# Altium footprint library ITR9606Board.PcbLib: 8 footprints
Each footprint in its own frame and in the unit in brackets; x right, y up, seen from the top. Pads: shape width x height; smd on the part's side, far side on the other; paste and mask are expansions set on the pad; w line width, h text height; cw(c..) or ccw(c..) is an arc to the next point about the centre after c.
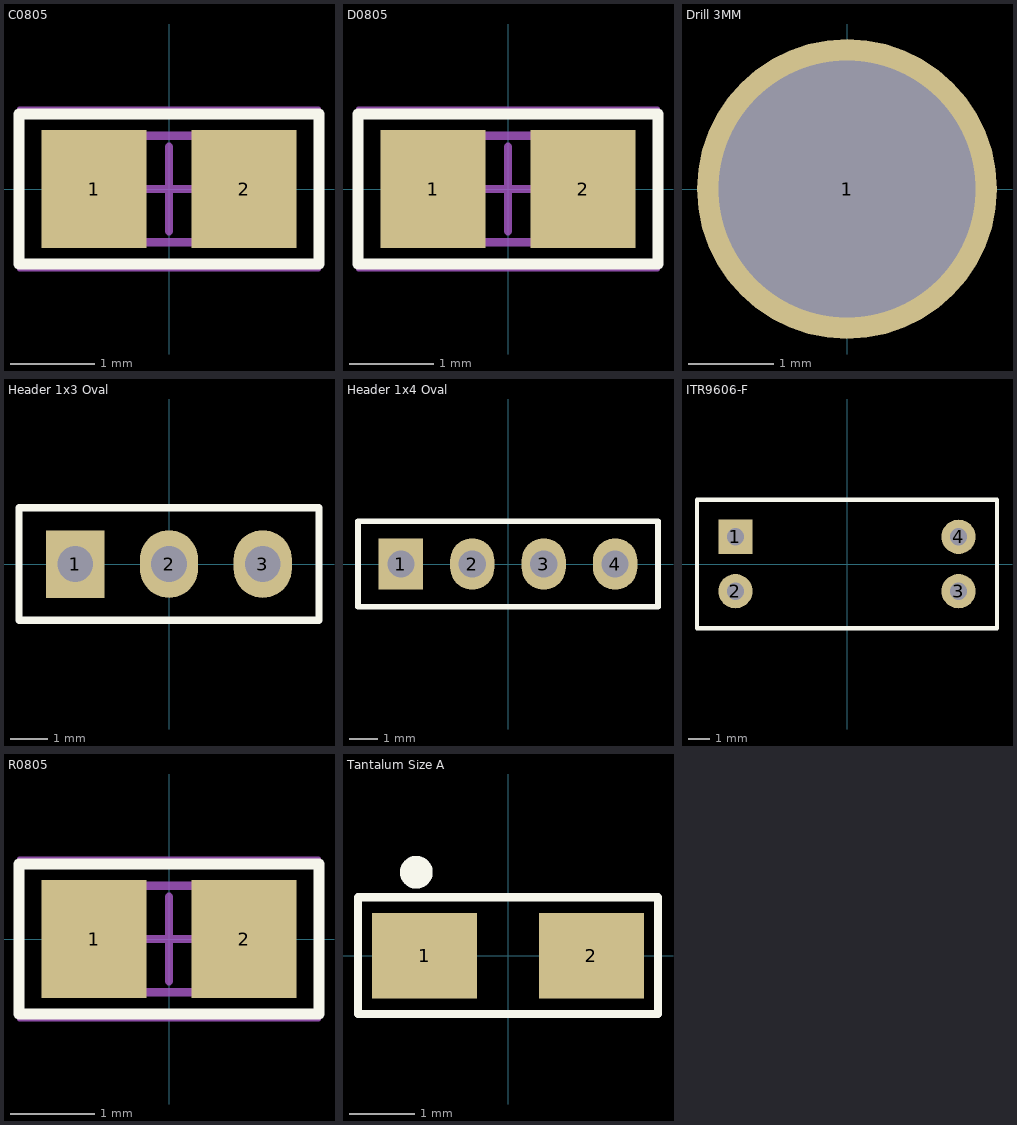
[diagram p0: the footprints below, top view; thin cyan lines are the x and y axes]

## C0805 [mm] "Chip Capacitor, 2-Leads, Body 2.00x1.25mm"
height 0.6
pads (2):
  rect 1.25x1.4 smd: 1(-0.889,0) 2(0.889,0)
Top Overlay:
  lines w0.127: -1.778,-0.889 -1.778,0.889 1.778,0.889 1.778,-0.889 -1.778,-0.889
Mechanical 13:
  lines w0.1: -1.1,-0.63 -1.1,0.63 1.1,0.63 1.1,-0.63 -1.1,-0.63
Mechanical 15:
  lines w0.05: -1.776,-0.95 -1.776,0.95 1.776,0.95 1.776,-0.95 -1.776,-0.95
  lines w0.1: -0.5,0 0.5,0 ; 0,-0.5 0,0.5
3D body "C0805.step": height 0.6, standoff 0, extent -1.1,-0.63 1.1,0.63

## D0805 [mm]
pads (2):
  rect 1.25x1.4 smd: 1(-0.889,0) 2(0.889,0)
Top Overlay:
  lines w0.127: -1.778,-0.889 -1.778,0.889 1.778,0.889 1.778,-0.889 -1.778,-0.889
Mechanical 13:
  lines w0.1: -1.1,-0.63 -1.1,0.63 1.1,0.63 1.1,-0.63 -1.1,-0.63
Mechanical 15:
  lines w0.05: -1.776,-0.95 -1.776,0.95 1.776,0.95 1.776,-0.95 -1.776,-0.95
  lines w0.1: -0.5,0 0.5,0 ; 0,-0.5 0,0.5
3D body "User Library-led_0805.step": height 1.1, standoff 0, extent -1.01,-0.625 1.01,0.625

## Drill 3MM [mil]
pads (1):
  round 138 hole 118.11: 1(0,0)

## Header 1x3 Oval [mil] "2.54mm Single Male Pin Header"
height 100
pads (3):
  rect 62x72 hole 38: 1(-100,0)
  oval 62x72 hole 38: 2(0,0) 3(100,0)
Top Overlay:
  lines w7.87: -160,-60 160,-60 160,60 -160,60 -160,-60
Bottom Overlay:
  lines w7.87: -160,-60 160,-60 160,60 -160,60 -160,-60

## Header 1x4 Oval [mil] "2.54mm Single Male Pin Header"
height 100
pads (4):
  rect 62x72 hole 38: 1(-150,0)
  oval 62x72 hole 38: 2(-50,0) 3(50,0) 4(150,0)
Top Overlay:
  lines w7.87: -210,-60 210,-60 210,60 -210,60 -210,-60
Bottom Overlay:
  lines w7.87: -210,-60 210,-60 210,60 -210,60 -210,-60

## ITR9606-F [mm] "Opto Interrupter, Sensing Distance 5mm"
height 2.54
pads (4):
  rect 1.6x1.6 hole 0.8: 1(-5.207,1.27)
  round 1.6 hole 0.8: 2(-5.207,-1.27) 3(5.207,-1.27) 4(5.207,1.27)
Top Overlay:
  lines w0.2: -7,-3 7,-3 7,3 -7,3 -7,-3
3D body "Hieu_Sensor_ITR9606_F.STEP": height 10.1, standoff 0.1, extent -7,-2.921 7,3.079

## R0805 [mm]
pads (2):
  rect 1.25x1.4 smd: 1(-0.889,0) 2(0.889,0)
Top Overlay:
  lines w0.127: -1.778,-0.889 -1.778,0.889 1.778,0.889 1.778,-0.889 -1.778,-0.889
Mechanical 13:
  lines w0.1: -1.1,-0.63 -1.1,0.63 1.1,0.63 1.1,-0.63 -1.1,-0.63
Mechanical 15:
  lines w0.05: -1.776,-0.95 -1.776,0.95 1.776,0.95 1.776,-0.95 -1.776,-0.95
  lines w0.1: -0.5,0 0.5,0 ; 0,-0.5 0,0.5
3D body "RES0805.step": height 0.6, standoff 0, extent -1.1,-0.63 1.1,0.63

## Tantalum Size A [mm]
pads (2):
  rect 1.6x1.3 smd: 1(-1.27,0) 2(1.27,0)
Top Overlay:
  circle w0.25: c-1.397,1.27 r0.125
  lines w0.127: -2.286,-0.889 2.286,-0.889 2.286,0.889 -2.286,0.889 -2.286,-0.889
3D body "CAP_TANT_3216-18_A.step": height 1.7, standoff 0, extent -1.7,-0.9 1.7,0.9